# Altium footprint library CUI_CRJ011-ML1-TH.PcbLib: 1 footprints
Each footprint in its own frame and in the unit in brackets; x right, y up, seen from the top. Pads: shape width x height; smd on the part's side, far side on the other; paste and mask are expansions set on the pad; w line width, h text height; cw(c..) or ccw(c..) is an arc to the next point about the centre after c.
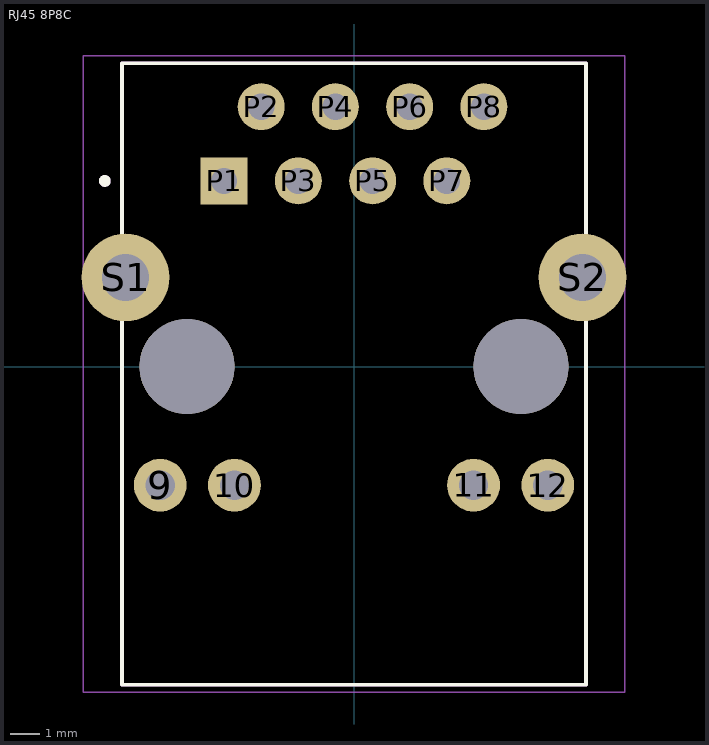
[diagram p0: the footprint, top view; thin cyan lines are the x and y axes]

## RJ45 8P8C [mm] "RJ45 8P8C CUI_CRJ011-ML1-TH"
height 13.6
pads (16):
  round 1.808 hole 1: 9(-6.63,-4.06) 10(-4.09,-4.06) 11(4.09,-4.06) 12(6.63,-4.06)
  rect 1.608x1.608 hole 0.9: P1(-4.445,6.35)
  round 1.608 hole 0.9: P2(-3.175,8.89) P3(-1.905,6.35) P4(-0.635,8.89) P5(0.635,6.35) P6(1.905,8.89) P7(3.175,6.35) P8(4.445,8.89)
  round 3 hole 1.6: S1(-7.815,3.05) S2(7.815,3.05)
  round 3.25 hole 3.25 unplated: ""(-5.715,0) ""(5.715,0)
Top Overlay:
  circle w0.2: c-8.525,6.35 r0.1
  lines w0.127: -7.94,1.53 -7.94,-10.89 7.94,-10.89 7.94,1.53 ; -7.94,4.57 -7.94,10.38 7.94,10.38 7.94,4.57
Assembly Top:
  circle w0.2: c-8.525,6.35 r0.1
  lines w0.127: -7.94,-10.89 7.94,-10.89 7.94,10.38 -7.94,10.38 -7.94,-10.89
Courtyard Top:
  lines w0.05: -9.265,-11.14 -9.265,10.63 9.265,10.63 9.265,-11.14 -9.265,-11.14
3D body "step_temp.STEP": height 13.3, standoff -3.74, extent -8.34,-10.922 8.34,10.345